# Altium footprint library Badge.PcbLib: 7 footprints
Each footprint in its own frame and in the unit in brackets; x right, y up, seen from the top. Pads: shape width x height; smd on the part's side, far side on the other; paste and mask are expansions set on the pad; w line width, h text height; cw(c..) or ccw(c..) is an arc to the next point about the centre after c.
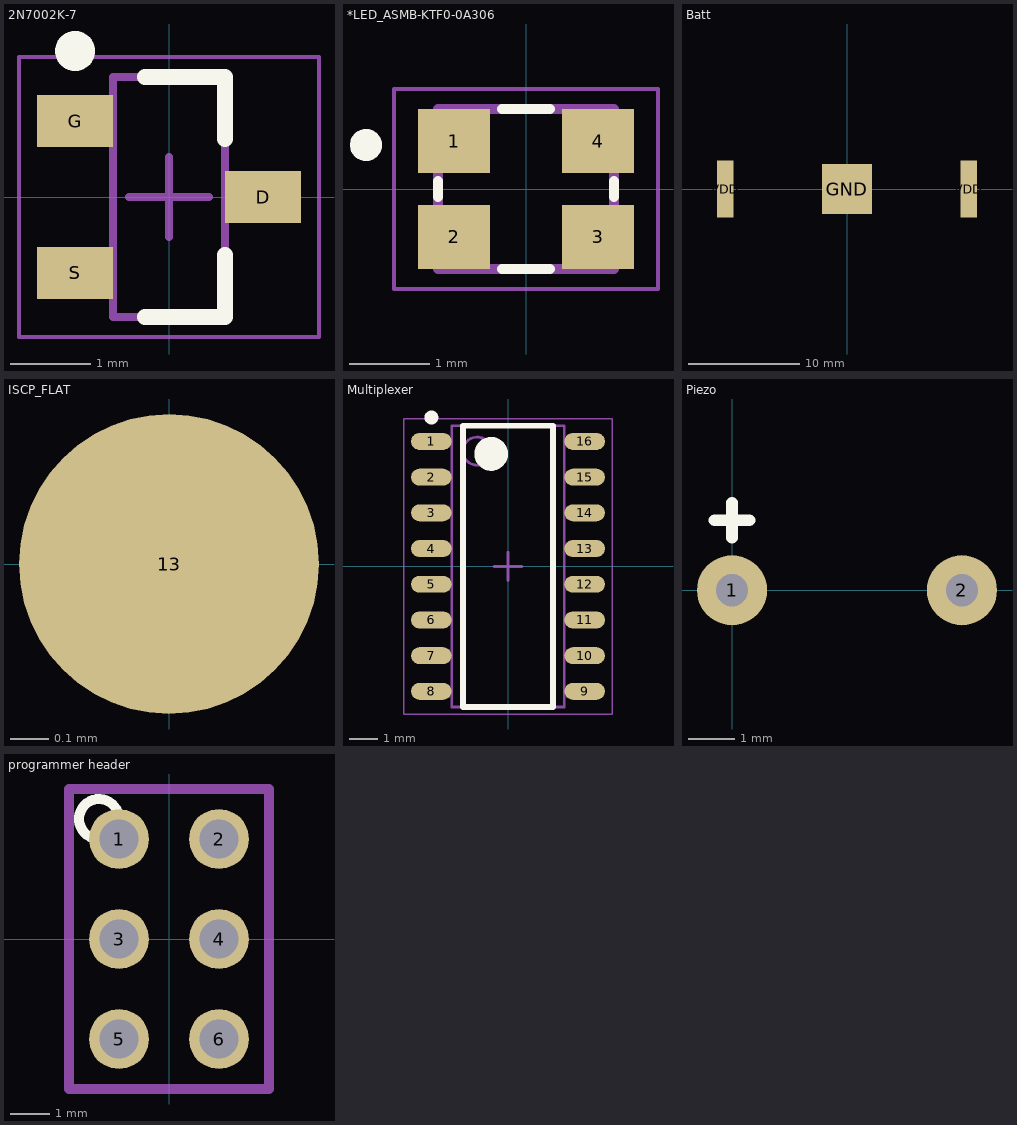
[diagram p0: the footprints below, top view; thin cyan lines are the x and y axes]

## 2N7002K-7 [mm] "SOT23, 3-Leads, Body 2.90x2.40mm, Pitch 0.95mm, IPC Medium Density"
height 1.1
pads (3):
  rect 0.95x0.65 smd: D(1.175,0) G(-1.175,0.95) S(-1.175,-0.95)
Top Overlay:
  circle w0.25: c-1.175,1.825 r0.125
  lines w0.2: -0.3,-1.5 0.7,-1.5 0.7,-0.725 ; -0.3,1.5 0.7,1.5 0.7,0.725
Mechanical 13:
  lines w0.1: -0.7,-1.5 0.7,-1.5 0.7,1.5 -0.7,1.5 -0.7,-1.5
Mechanical 15:
  lines w0.05: -1.875,-1.75 1.875,-1.75 1.875,1.75 -1.875,1.75 -1.875,-1.75
  lines w0.1: -0.5,0 0.5,0 ; 0,-0.5 0,0.5
3D body "SOT95P240X110-3N.step": height 1.1, standoff 0, extent -1.25,-1.5 1.25,1.5

## *LED_ASMB-KTF0-0A306 [mm]
pads (4):
  rect 0.9x0.8 smd: 1(-0.9,0.6) 2(-0.9,-0.6) 3(0.9,-0.6) 4(0.9,0.6)
Top Overlay:
  circle w0.2: c-2,0.55 r0.1
  lines w0.127: -1.1,-0.1 -1.1,0.1 ; -0.3,-1 0.3,-1 ; -0.3,1 0.3,1 ; 1.1,-0.1 1.1,0.1
Mechanical 4:
  circle w0.2: c-0.65,0.55 r0.1
  circle w0.2: c-0.65,0.55 r0.1
  lines w0.127: -1.1,-1 -1.1,1 ; -1.1,-1 1.1,-1 ; -1.1,-1 -1.1,1 ; -1.1,-1 1.1,-1 ; -1.1,1 1.1,1 ; -1.1,1 1.1,1 ; 1.1,-1 1.1,1 ; 1.1,-1 1.1,1
Mechanical 16:
  lines w0.05: -1.65,-1.25 1.65,-1.25 1.65,1.25 -1.65,1.25 -1.65,-1.25

## Batt [mm] "Coin Cell"
pads (3):
  rect 4.5x4.5 smd: GND(0,0)
  rect 1.5x5.1 smd: VDD(-10.95,0) VDD(10.95,0)
3D body: height 0.25, standoff 0, extent -11.811,-7.747 11.811,7.366

## ISCP_FLAT [mm]
pads (1):
  round 0.787 smd: 13(0,0)

## Multiplexer [mm] "SOP, 16-Leads, Body 9.90x3.90mm, Pitch 1.27mm, IPC Medium Density"
height 1.75
pads (16):
  oval 1.45x0.6 smd: 1(-2.725,4.445) 2(-2.725,3.175) 3(-2.725,1.905) 4(-2.725,0.635) 5(-2.725,-0.635) 6(-2.725,-1.905) 7(-2.725,-3.175) 8(-2.725,-4.445) 9(2.725,-4.445) 10(2.725,-3.175) 11(2.725,-1.905) 12(2.725,-0.635) 13(2.725,0.635) 14(2.725,1.905) 15(2.725,3.175) 16(2.725,4.445)
Top Overlay:
  circle w0.6: c-0.6,4 r0.3
  circle w0.25: c-2.725,5.295 r0.125
  lines w0.2: -1.6,-5 1.6,-5 1.6,5 -1.6,5 -1.6,-5
Mechanical 13:
  circle w0.1: c-1.1,4.1 r0.5
  lines w0.1: -2,-5 2,-5 2,5 -2,5 -2,-5
Mechanical 15:
  lines w0.05: -3.7,-5.25 3.7,-5.25 3.7,5.25 -3.7,5.25 -3.7,-5.25
  lines w0.1: -0.5,0 0.5,0 ; 0,-0.5 0,0.5
3D body "SOP127P600X175-16N.step": height 1.75, standoff 0, extent -3,-5 3,5

## Piezo [mil]
pads (2):
  round 60 hole 27.56: 1(0,0) 2(196.85,0)
Top Overlay:
  lines w10: -15,60 15,60 ; 0,45 0,75
3D body: height 255.91, standoff 0, extent -380.31,-480.18 580.32,480.18

## programmer header [mil]
pads (6):
  round 60 hole 39.37: 1(-50,100) 2(50,100) 3(-50,0) 4(50,0) 5(-50,-100) 6(50,-100)
Top Overlay:
  circle w10: c-70,120 r20
Mechanical 1:
  lines w10: -100,-150 100,-150 100,150 -100,150 -100,-150
3D body "010897060.stp": height 330, standoff -107, extent -100,-149.99 100,150.01